# Altium footprint library TestPcbLib.PcbLib: 25 footprints (part 1 of 2)
Each footprint in its own frame and in the unit in brackets; x right, y up, seen from the top. Pads: shape width x height; smd on the part's side, far side on the other; paste and mask are expansions set on the pad; w line width, h text height; cw(c..) or ccw(c..) is an arc to the next point about the centre after c.
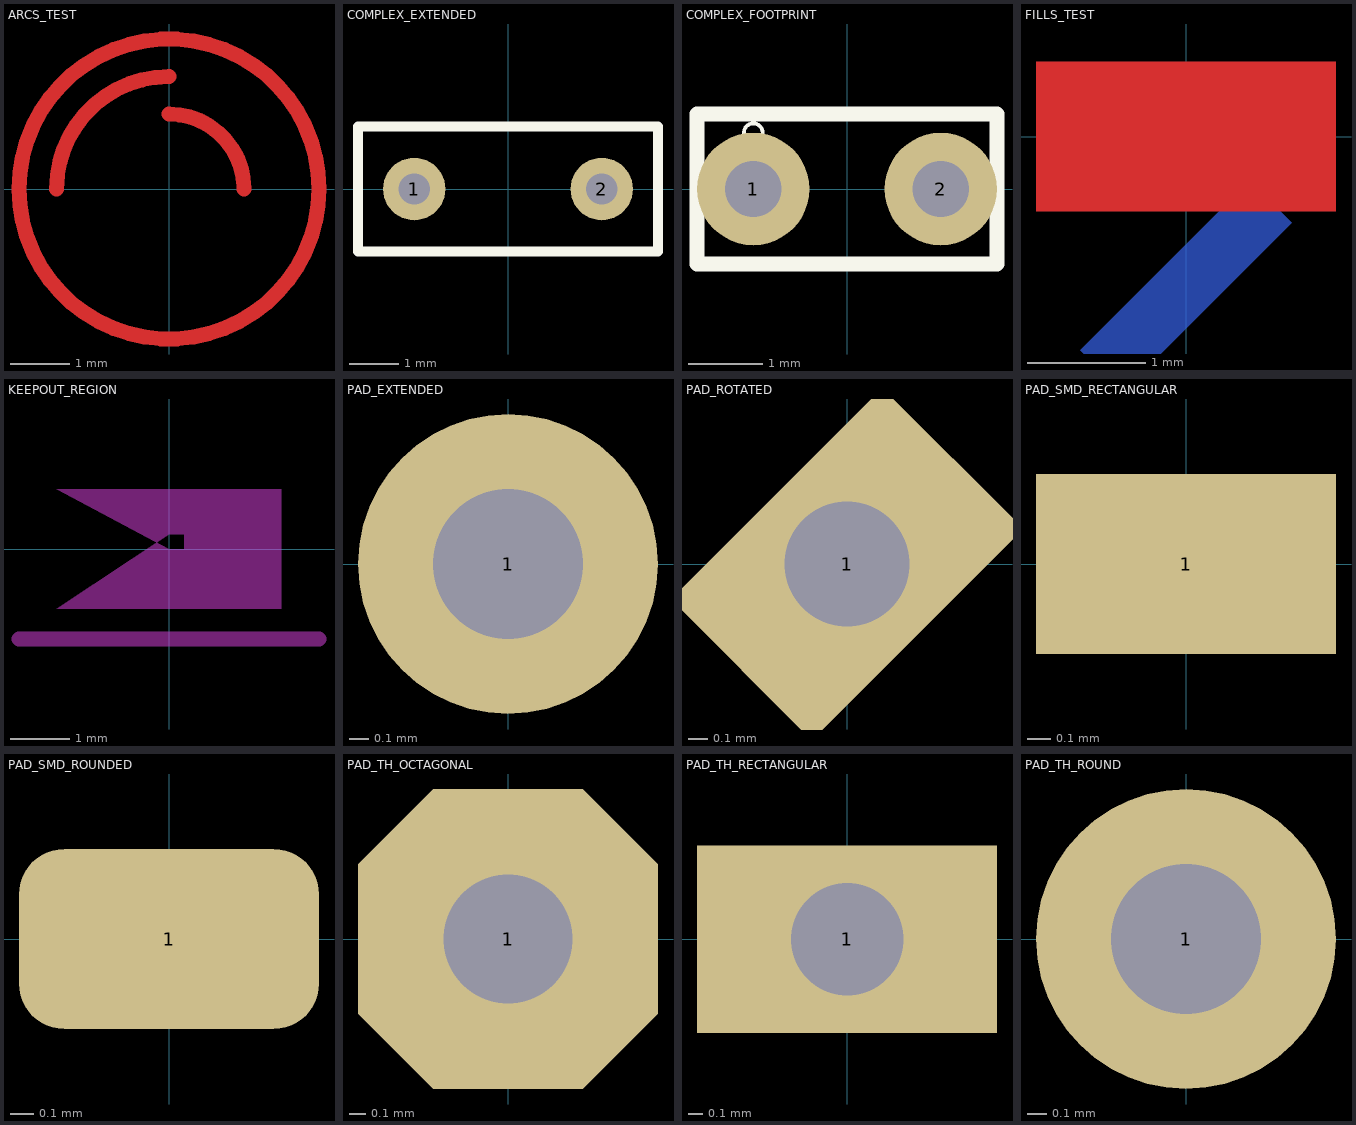
[diagram p0: the footprints below, top view; thin cyan lines are the x and y axes]

## ARCS_TEST [mil] "Arcs with various angles"
Top Layer:
  circle w10: c0,0 r100
  lines w10: -75,0 cw(c0,0) 0,75 ; 0,50 cw(c0,0) 50,0

## BODY_3D [mil] "3D extruded component body"
3D body: height 100, standoff 0, extent -100,-50 100,50

## BODY_3D_EXTENDED [mil] "3D body with custom color and opacity"
3D body: height 150, standoff 10, extent -100,-50 100,50

## BODY_3D_STEP [mil] "3D body loaded from STEP file"
3D body "PSEMI QFN-24 4x4.step": height 31.5, standoff 0, extent -79.13,-79.13 79.13,79.13

## COMPLEX_EXTENDED [mil] "Complex footprint with all extended property types"
pads (2):
  round 50 hole 25: 1(-75,0)
  round 50 hole 25 paste+0 mask+4: 2(75,0)
Top Overlay:
  lines w8: -120,-50 -120,50 120,50 120,-50 -120,-50
3D body: height 80, standoff 0, extent -100,-50 100,50

## COMPLEX_FOOTPRINT [mil] "Complex footprint with multiple primitive types"
pads (2):
  round 60 hole 30: 1(-50,0) 2(50,0)
Top Overlay:
  circle w2: c-50,30 r5
  lines w8: -80,-40 -80,40 80,40 80,-40 -80,-40
  text ".Designator" at 0,50 h40

## DIMENSION_EXTENDED [mil] "Dimension with TrueType font and extended properties"

## FILLS_TEST [mil] "Fill regions"
Top Layer:
  rectangle: -50,-25 50,25
Bottom Layer:
  region: -21.21,-85.36 35.36,-28.79 21.21,-14.64 -35.36,-71.21

## KEEPOUT_REGION [mil] "Keepout region test"
Keep-Out Layer:
  region: 0,0 10,0 10,10 0,10 -75,-40 75,-40 75,40 -75,40
  lines w10: -100,-60 100,-60

## PAD_EXTENDED [mil] "Pad with tenting, testpoint, power plane properties"
pads (1):
  round 60 hole 30: 1(0,0)

## PAD_ROTATED [mil] "Rotated pad at 45 degrees"
pads (1):
  rect 60x40 hole 25 rot 45: 1(0,0)

## PAD_SMD_RECTANGULAR [mil] "SMD rectangular pad test"
pads (1):
  rect 50x30 smd: 1(0,0)

## PAD_SMD_ROUNDED [mil] "SMD rounded rectangular pad test"
pads (1):
  rrect50% 50x30 smd: 1(0,0)

## PAD_TH_OCTAGONAL [mil] "Through-hole octagonal pad test"
pads (1):
  oct 70x70 hole 30: 1(0,0)

## PAD_TH_RECTANGULAR [mil] "Through-hole rectangular pad test"
pads (1):
  rect 80x50 hole 30: 1(0,0)

## PAD_TH_ROUND [mil] "Through-hole round pad test"
pads (1):
  round 60 hole 30: 1(0,0)